# EAGLE library part SHIFT_NXP_74HC595 (library ee_projects)
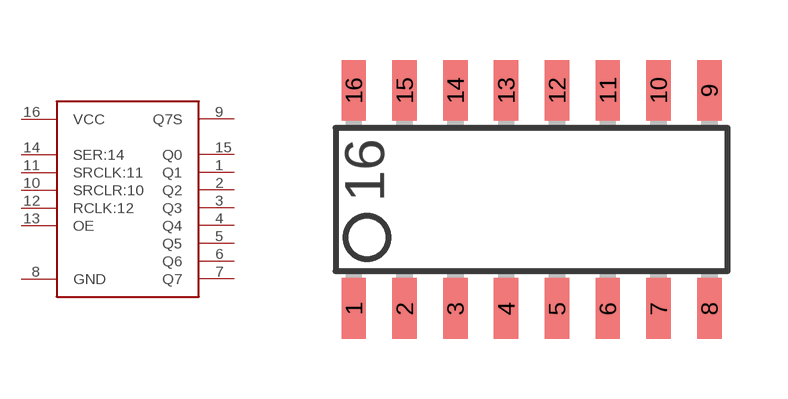
[diagram p10: symbol with the pads of SO-16; footprint SO-16]

Designator prefix -

## SHIFT_NXP_74HC595  [SO-16]
1  Q1
2  Q2
3  Q3
4  Q4
5  Q5
6  Q6
7  Q7
8  GND
9  Q7S
10  SRCLR:10
11  SRCLK:11
12  RCLK:12
13  OE
14  SER:14
15  Q0
16  VCC

## Footprint SO-16 (pad centres in mm)
Small Outline Integrated Circuit
smd 0.61 x 1.524: 1 -4.445,-2.794; 2 -3.175,-2.794; 3 -1.905,-2.794; 4 -0.635,-2.794; 5 0.635,-2.794; 6 1.905,-2.794; 7 3.175,-2.794; 8 4.445,-2.794; 9 4.445,2.667; 10 3.175,2.667; 11 1.905,2.667; 12 0.635,2.667; 13 -0.635,2.667; 14 -1.905,2.667; 15 -3.175,2.667; 16 -4.445,2.667